# Altium footprint library SOIC127P500X600-8N.PcbLib: 1 footprints
Each footprint in its own frame and in the unit in brackets; x right, y up, seen from the top. Pads: shape width x height; smd on the part's side, far side on the other; paste and mask are expansions set on the pad; w line width, h text height; cw(c..) or ccw(c..) is an arc to the next point about the centre after c.
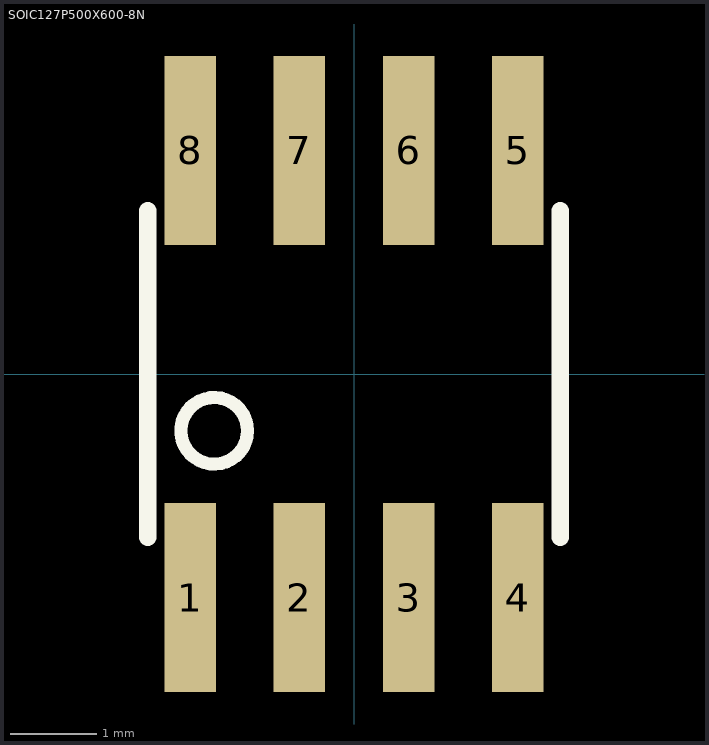
[diagram p0: the footprint, top view; thin cyan lines are the x and y axes]

## SOIC127P500X600-8N [mm]
pads (8):
  rect 0.6x2.2 smd: 1(-1.905,-2.6) 2(-0.635,-2.6) 3(0.635,-2.6) 4(1.905,-2.6) 5(1.905,2.6) 6(0.635,2.6) 7(-0.635,2.6) 8(-1.905,2.6)
Top Overlay:
  circle w0.152: c-1.626,-0.66 r0.388
  lines w0.203: -2.4,-1.9 -2.4,-1.4 -2.4,1.9 ; 2.4,-1.9 2.4,-1.4 2.4,1.9
Mechanical 1:
  region: -2.157,-2 -1.66,-2 -1.66,-3.11 -2.157,-3.11
  region: -0.882,-2 -0.39,-2 -0.39,-3.108 -0.882,-3.108
  region: 0.39,-2 0.88,-2 0.88,-3.103 0.39,-3.103
  region: 1.662,-2 2.15,-2 2.15,-3.103 1.662,-3.103
  region: 1.663,3.1 2.15,3.1 2.15,2.004 1.663,2.004
  region: 0.391,3.1 0.88,3.1 0.88,2.005 0.391,2.005
  region: -0.882,3.1 -0.39,3.1 -0.39,2.004 -0.882,2.004
  region: -2.152,3.1 -1.66,3.1 -1.66,2.002 -2.152,2.002
3D body "SOIC127P500X600-8N.step": height 2.03, standoff 0, extent -2.46,-2.673 2.44,2.693